# EAGLE library part TDA1561Q (library Audio-Power-amlifier V.2.0)
The TDA1561Q is a monolithic power amplifier in a 13 lead single-in-line (SIL) plastic power package. It contains two identical 23 W amplifiers. The dissipation is minimized by switching from SE to BTL mode, only when a higher output voltage swing is needed. The device is primarily developed for car radio applications.
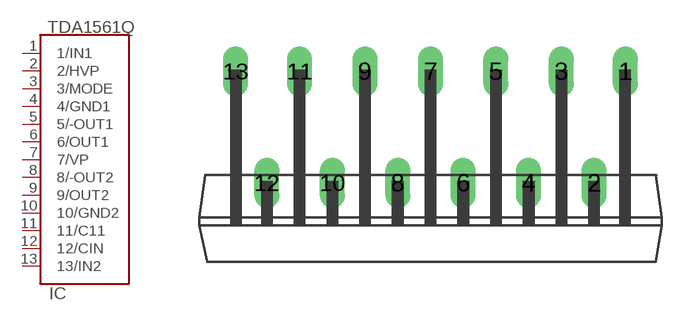
[diagram p228: symbol with the pads of SOT141-6; footprint SOT141-6]

Designator prefix IC

## TDA1561Q  [SOT141-6]
1  1/IN1  in
2  2/HVP  in
3  3/MODE  in
4  4/GND1  pwr
5  5/-OUT1  out
6  6/OUT1  out
7  7/VP  pwr
8  8/-OUT2  out
9  9/OUT2  out
10  10/GND2  pwr
11  11/C11
12  12/CIN  in
13  13/IN2  in

## Footprint SOT141-6 (pad centres in mm)
drill 0.8 long: 1 10.12,5.8; 2 8.5,0; 3 6.8,5.8; 4 5.1,0; 5 3.4,5.8; 6 1.7,0; 7 0,5.8; 8 -1.7,0; 9 -3.4,5.8; 10 -5.1,0; 11 -6.8,5.8; 12 -8.5,0; 13 -10.12,5.8